# Altium schematic symbol library Symbols.SchLib: 2 symbols
Pins are listed as number, name and electrical type; pins without a type are passive.

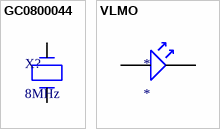
[diagram p0: symbols GC0800044 to VLMO]

## GC0800044
designator X?, comment 8MHz
Diodes Incorporated GC0800044; Supplier 1: Digi-Key; Supplier Part Number 1: GC0800044TR-ND
footprint GCO800044
pins: 1, 2

## VLMO
designator *
Vishay - VLMO31K1L2-GS08; Supplier 1: Digi-Key; Supplier Part Number 1: VLMO31K1L2-GS08CT-ND
footprint VLMO (Vishay - VLMO31K1L2-GS08)
pins: 1 (power), 2 (power)